# EAGLE library part EXTRACORE_WEAVETIMER (library DMF-ExtraCore-noProgHeaders)
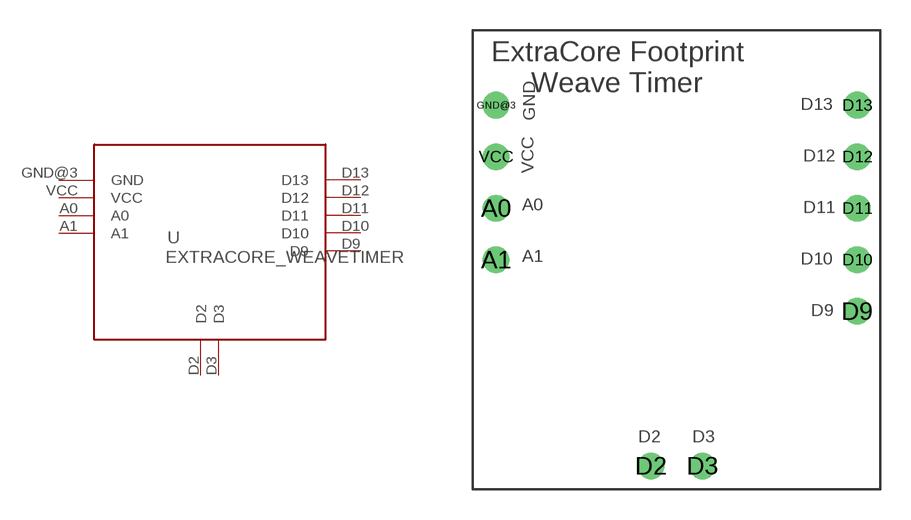
[diagram p1: symbol with the pads of EXTRACORE_WEAVETIMERCONFIG; footprint EXTRACORE_WEAVETIMERCONFIG]

Designator prefix -

## EXTRACORE_WEAVETIMER  [EXTRACORE_WEAVETIMERCONFIG]
A0  A0
A1  A1
D2  D2
D3  D3
D9  D9
D10  D10
D11  D11
D12  D12
D13  D13
GND@3  GND  pwr
VCC  VCC  pwr

## Footprint EXTRACORE_WEAVETIMERCONFIG (pad centres in mm)
drill 0.8: A0 -8.89,2.54; A1 -8.89,0; D2 -1.27,-10.16; D3 1.27,-10.16; D9 8.89,-2.54; D10 8.89,0; D11 8.89,2.54; D12 8.89,5.08; D13 8.89,7.62; GND@3 -8.89,7.62; VCC -8.89,5.08